# Altium schematic symbol library Capacitors.SchLib: 1 symbol
Pins are listed as number, name and electrical type; pins without a type are passive.

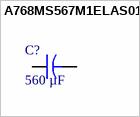
[diagram p0: symbol A768MS567M1ELAS017]

## A768MS567M1ELAS017
designator C?, comment 560 µF
560 µF 25 V Aluminum - Polymer Capacitors Radial, Can - SMD 17mOhm 2000 Hrs @ 125°C; Manufacturer Part Number: A768MS567M1ELAS017; Manufacturer: KEMET; Ripple Current @ Low Frequency: 125 mA @ 120 Hz; Ripple Current @ High Frequency: 2.5 A @ 100 kHz; Eco Plan: RoHS & Green; Tolerance: ±20%; Voltage - Rated: 25 V; Capacitance: 560 µF; Category: SMD Aluminum Polymer Capacitor; Datasheet: https://connect.kemet.com:7667/gateway/IntelliData-ComponentDocumentation/1.0/download/datasheet/A768MS567M1ELAS017; ESR (Equivalent Series Resistance): 17mOhm; Operating Temperature: -55°C ~ 125°C; Package / Case: Radial, Can - SMD; Ratings: AEC-Q200; Series: A768; Supplier 1: Digi-Key; Supplier Part Number 1: 399-A768MS567M1ELAS017CT-ND; Type: Polymer
footprint A768MS567M1ELAS017 (560 µF 25 V Aluminum - Polymer Capacitors Radial, Can - SMD 17mOhm 2000 Hrs @ 125°C)
pins: 1 "Capacitor_Pin_01", 2 "Capacitor_Pin_02"
2 alternate drawings of the same symbol